# Altium footprint library tekprobe.PcbLib: 11 footprints
Each footprint in its own frame and in the unit in brackets; x right, y up, seen from the top. Pads: shape width x height; smd on the part's side, far side on the other; paste and mask are expansions set on the pad; w line width, h text height; cw(c..) or ccw(c..) is an arc to the next point about the centre after c.
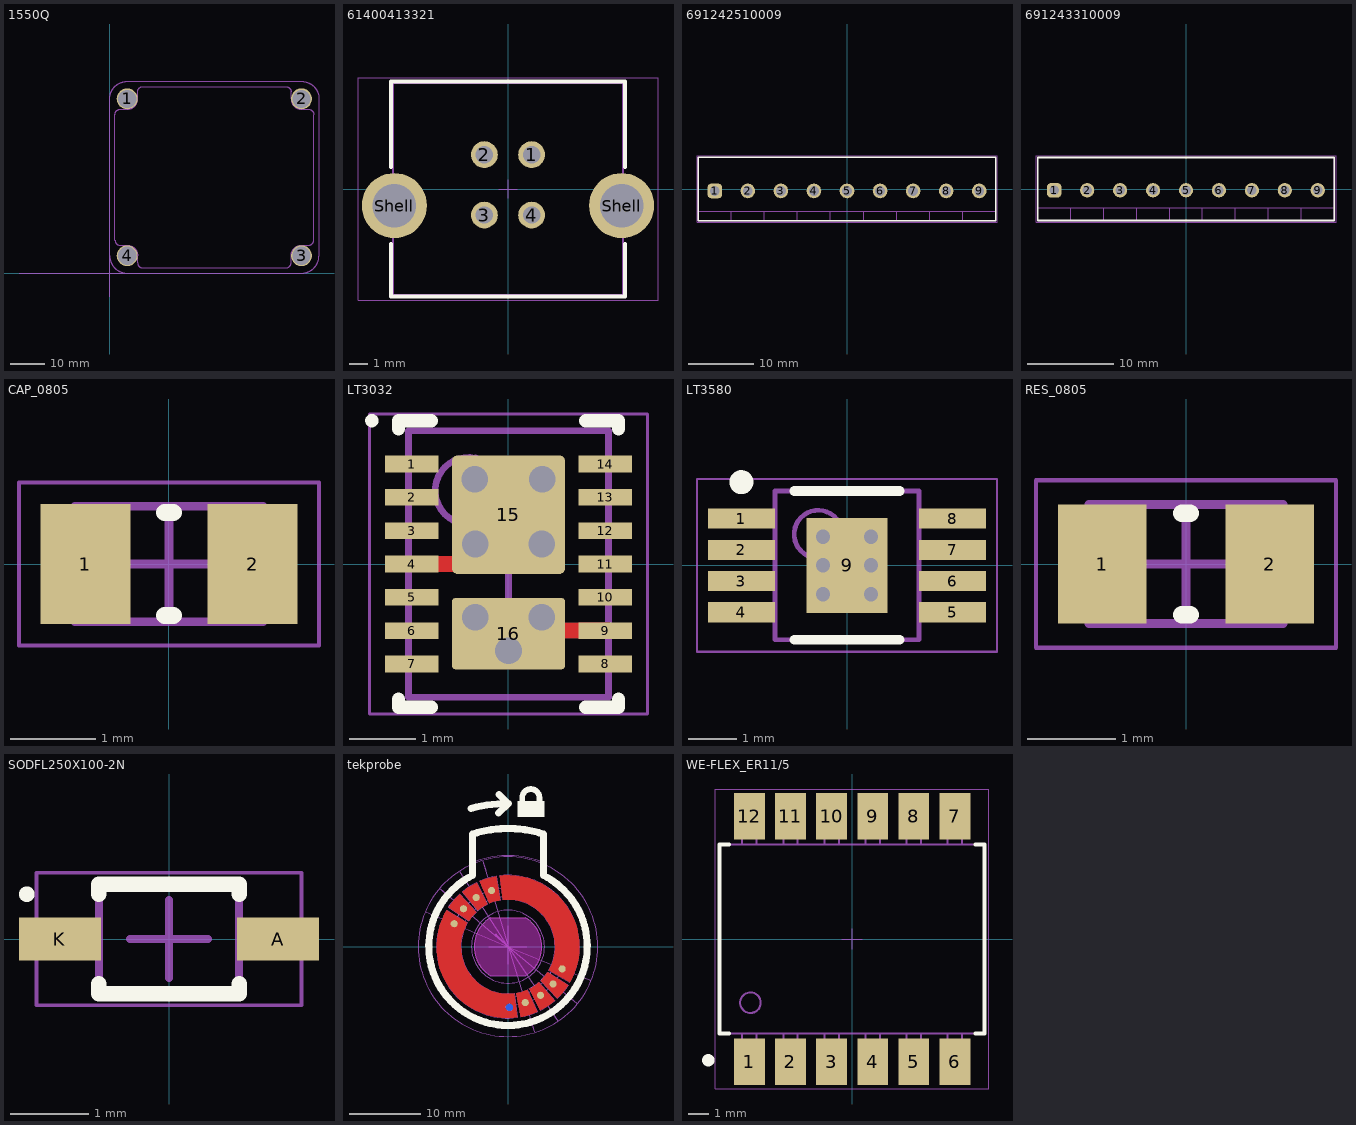
[diagram p0: the footprints below, top view; thin cyan lines are the x and y axes]

## 1550Q [mm]
pads (4):
  round 6 hole 5.2: 1(5,50) 2(55,50) 3(55,5) 4(5,5)
Mechanical 1:
  drawing of 1626 lines, arcs and shapes, not listed
3D body "1550Q.STEP": height 0.6, standoff -27.6, extent 0,0 60,55

## 61400413321 [mm] "USB 2.0 Type B Vertical"
height 16.1
pads (6):
  round 1.42 hole 0.92: 1(1.25,1.82) 2(-1.25,1.82) 3(-1.25,-1.38) 4(1.25,-1.38)
  round 3.45 hole 2.3: Shell(-6.02,-0.88) Shell(6.02,-0.88)
Top Overlay:
  lines w0.2: -6.2,-2.91 -6.2,-5.7 6.2,-5.7 6.2,-2.91 ; -6.2,1.15 -6.2,5.7 6.2,5.7 6.2,1.15
Mechanical 11:
  lines w0.1: -6.1,-5.6 -6.1,5.6 6.1,5.6 6.1,-5.6 -6.1,-5.6
  text ".Designator" at -1.75,-0.75 h1.5
Mechanical 13:
  lines w0.1: -6.1,-5.6 6.1,-5.6 6.1,5.6 -6.1,5.6 -6.1,-5.6
Mechanical 15:
  lines w0.05: -0.5,0 0.5,0 ; 0,-0.5 0,0.5 ; -7.945,-5.9 7.945,-5.9 7.945,5.9 -7.945,5.9 -7.945,-5.9
3D body "61400413321.stp": height 16.2, standoff -4.12, extent -7.35,-5.6 7.35,5.6

## 691242510009 [mm] "Serie 2425 - 5.08 mm _ 9 pins"
height 13.8
pads (9):
  rrect50% 2.25x2.25 hole 1.5: 1(-20.32,-0.3)
  round 2.25 hole 1.5: 2(-15.24,-0.3) 3(-10.16,-0.3) 4(-5.08,-0.3) 5(0,-0.3) 6(5.08,-0.3) 7(10.16,-0.3) 8(15.24,-0.3) 9(20.32,-0.3)
Top Overlay:
  lines w0.2: -22.86,-4.9 -22.86,4.9 22.86,4.9 22.86,-4.9 -22.86,-4.9
Mechanical 11:
  lines w0.1: -22.86,-3.4 22.86,-3.4 ; -17.78,-4.9 -17.78,-3.4 ; -12.7,-4.9 -12.7,-3.4 ; -7.62,-4.9 -7.62,-3.4 ; -2.54,-4.9 -2.54,-3.4 ; 2.54,-4.9 2.54,-3.4 ; 7.62,-4.9 7.62,-3.4 ; 12.7,-4.9 12.7,-3.4 ; 17.78,-4.9 17.78,-3.4 ; -22.86,-4.9 22.86,-4.9 22.86,4.9 -22.86,4.9 -22.86,-4.9
  text ".Designator" at -1.75,-0.75 h1.5
Mechanical 13:
  lines w0.1: -22.86,-3.4 22.86,-3.4 ; -17.78,-4.9 -17.78,-3.4 ; -12.7,-4.9 -12.7,-3.4 ; -7.62,-4.9 -7.62,-3.4 ; -2.54,-4.9 -2.54,-3.4 ; 2.54,-4.9 2.54,-3.4 ; 7.62,-4.9 7.62,-3.4 ; 12.7,-4.9 12.7,-3.4 ; 17.78,-4.9 17.78,-3.4 ; -22.86,-4.9 -22.86,4.9 22.86,4.9 22.86,-4.9 -22.86,-4.9
Mechanical 15:
  lines w0.05: -0.5,0 0.5,0 ; 0,-0.5 0,0.5 ; -23.06,-5.1 23.06,-5.1 23.06,5.1 -23.06,5.1 -23.06,-5.1
3D body "691242510009.stp": height 13.85, standoff -3.45, extent -22.86,-4.9 22.86,4.9

## 691243310009 [mm] "Serie 2433 - 3.81 mm _ 9 pins"
height 9.1
pads (9):
  rrect50% 1.65x1.65 hole 1.1: 1(-15.24,-0.15)
  round 1.65 hole 1.1: 2(-11.43,-0.15) 3(-7.62,-0.15) 4(-3.81,-0.15) 5(0,-0.15) 6(3.81,-0.15) 7(7.62,-0.15) 8(11.43,-0.15) 9(15.24,-0.15)
Top Overlay:
  lines w0.2: -17.145,-3.65 17.145,-3.65 17.145,3.65 -17.145,3.65 -17.145,-3.65
Mechanical 11:
  lines w0.1: -17.145,-2.15 17.145,-2.15 ; -13.335,-3.65 -13.335,-2.15 ; -9.525,-3.65 -9.525,-2.15 ; -5.715,-3.65 -5.715,-2.15 ; -1.905,-3.65 -1.905,-2.15 ; 1.905,-3.65 1.905,-2.15 ; 5.715,-3.65 5.715,-2.15 ; 9.525,-3.65 9.525,-2.15 ; 13.335,-3.65 13.335,-2.15 ; -17.145,-3.65 -17.145,3.65 17.145,3.65 17.145,-3.65 -17.145,-3.65
  text ".Designator" at -1.75,-0.75 h1.5
Mechanical 13:
  lines w0.1: -17.145,-2.15 17.145,-2.15 ; -13.335,-3.65 -13.335,-2.15 ; -9.525,-3.65 -9.525,-2.15 ; -5.715,-3.65 -5.715,-2.15 ; -1.905,-3.65 -1.905,-2.15 ; 1.905,-3.65 1.905,-2.15 ; 5.715,-3.65 5.715,-2.15 ; 9.525,-3.65 9.525,-2.15 ; 13.335,-3.65 13.335,-2.15 ; -17.145,-3.65 17.145,-3.65 17.145,3.65 -17.145,3.65 -17.145,-3.65
Mechanical 15:
  lines w0.05: -0.5,0 0.5,0 ; 0,-0.5 0,0.5 ; -17.345,-3.85 17.345,-3.85 17.345,3.85 -17.345,3.85 -17.345,-3.85
3D body "691243310009.stp": height 9.15, standoff -3.45, extent -17.145,-3.65 17.145,3.65

## CAP_0805 [mm]
height 1.35
pads (2):
  rect 1.05x1.4 smd: 1(-0.975,0) 2(0.975,0)
Top Overlay:
  lines w0.2: -0.05,-0.6 0.05,-0.6 ; -0.05,0.6 0.05,0.6
Mechanical 13:
  lines w0.1: -1.1,-0.675 -1.1,0.675 1.1,0.675 1.1,-0.675 -1.1,-0.675
Mechanical 15:
  lines w0.05: -1.75,-0.95 -1.75,0.95 1.75,0.95 1.75,-0.95 -1.75,-0.95
  lines w0.1: -0.5,0 0.5,0 ; 0,-0.5 0,0.5
3D body "CAP_0805.step": height 1.35, standoff 0, extent -1.1,-0.675 1.1,0.675

## LT3032 [mm] "SON, 14-Leads, Body 4.00x3.00mm, Pitch 0.50mm, Thermal Pad 2.34x1.62mm, IPC Medium Density"
height 0.75
pads (16):
  rect 0.8x0.25 smd mask+0.03: 1(-1.45,1.5) 2(-1.45,1) 3(-1.45,0.5) 4(-1.45,0) 5(-1.45,-0.5) 6(-1.45,-1) 7(-1.45,-1.5) 8(1.45,-1.5) 9(1.45,-1) 10(1.45,-0.5) 11(1.45,0) 12(1.45,0.5) 13(1.45,1) 14(1.45,1.5)
  rrect10% 1.7x1.78 smd mask+0.03: 15(0,0.74)
  rrect10% 1.7x1.07 smd mask+0.03: 16(0,-1.045)
via -0.508,1.27 diameter 0.5 hole 0.4
via 0.508,1.27 diameter 0.5 hole 0.4
via -0.5,0.3 diameter 0.5 hole 0.4
via 0.5,0.3 diameter 0.5 hole 0.4
via 0.5,-0.8 diameter 0.5 hole 0.4
via 0,-1.3 diameter 0.5 hole 0.4
via -0.5,-0.8 diameter 0.5 hole 0.4
Top Layer:
  lines w0.24: -1.3,0 -0.3,0 ; 0.5,-1 1.5,-1
Top Overlay:
  circle w0.1: c-2.05,2.15 r0.05
  lines w0.2: -1.65,-2.025 -1.65,-2.15 -1.16,-2.15 ; -1.65,2.025 -1.65,2.15 -1.16,2.15 ; 1.16,-2.15 1.65,-2.15 1.65,-2.025 ; 1.16,2.15 1.65,2.15 1.65,2.025
Mechanical 13:
  circle w0.1: c-0.6,1.1 r0.5
  lines w0.1: -1.5,-2 1.5,-2 1.5,2 -1.5,2 -1.5,-2
Mechanical 15:
  lines w0.05: -2.085,-2.25 2.085,-2.25 2.085,2.25 -2.085,2.25 -2.085,-2.25
  lines w0.1: -0.5,0 0.5,0 ; 0,-0.5 0,0.5
3D body "LT3032.step": height 0.75, standoff 0, extent -1.55,-2 1.55,2

## LT3580 [mm] "TSOP, 8-Leads, Body 3.00x3.00mm, Pitch 0.65mm, Thermal Pad 1.88x1.68mm, IPC Medium Density"
height 1.1
pads (9):
  rect 1.4x0.42 smd mask+0.05: 1(-2.2,0.975) 2(-2.2,0.325) 3(-2.2,-0.325) 4(-2.2,-0.975) 5(2.2,-0.975) 6(2.2,-0.325) 7(2.2,0.325) 8(2.2,0.975)
  rect 1.68x1.98 smd mask+0.05: 9(0,0)
via 0.5,0 diameter 0.5 hole 0.3
via -0.5,0 diameter 0.5 hole 0.3
via 0.5,0.6 diameter 0.5 hole 0.3
via 0.5,-0.6 diameter 0.5 hole 0.3
via -0.5,-0.6 diameter 0.5 hole 0.3
via -0.5,0.6 diameter 0.5 hole 0.3
Top Overlay:
  circle w0.25: c-2.2,1.735 r0.125
  lines w0.2: -1.1,-1.55 1.1,-1.55 ; -1.1,1.55 1.1,1.55
Mechanical 13:
  circle w0.1: c-0.6,0.65 r0.5
  lines w0.1: -1.5,-1.55 1.5,-1.55 1.5,1.55 -1.5,1.55 -1.5,-1.55
Mechanical 15:
  lines w0.05: -3.125,-1.8 3.125,-1.8 3.125,1.8 -3.125,1.8 -3.125,-1.8
  lines w0.1: -0.5,0 0.5,0 ; 0,-0.5 0,0.5
3D body "LT3580.step": height 1.1, standoff 0, extent -2.45,-1.55 2.45,1.55

## RES_0805 [mm] "Chip Resistor, 2-Leads, Body 2.10x1.30mm, IPC Medium Density"
height 0.65
pads (2):
  rect 1x1.35 smd: 1(-0.95,0) 2(0.95,0)
Top Overlay:
  lines w0.2: -0.05,-0.575 0.05,-0.575 ; -0.05,0.575 0.05,0.575
Mechanical 13:
  lines w0.1: -1.1,-0.675 1.1,-0.675 1.1,0.675 -1.1,0.675 -1.1,-0.675
Mechanical 15:
  lines w0.05: -1.7,-0.95 1.7,-0.95 1.7,0.95 -1.7,0.95 -1.7,-0.95
  lines w0.1: -0.5,0 0.5,0 ; 0,-0.5 0,0.5
3D body "RES_0805.step": height 0.65, standoff 0, extent -1.1,-0.675 1.1,0.675

## SODFL250X100-2N [mm] "SODFL, 2-Leads, Body 1.25x2.50mm, IPC Medium Density"
height 1
pads (2):
  rect 1.05x0.55 smd: A(1.4,0) K(-1.4,0)
Top Overlay:
  circle w0.1: c-1.825,0.575 r0.05
  lines w0.2: -0.9,-0.575 -0.9,-0.7 0.9,-0.7 0.9,-0.575 ; -0.9,0.575 -0.9,0.7 0.9,0.7 0.9,0.575
Mechanical 13:
  lines w0.1: -0.9,-0.675 -0.9,0.675 0.9,0.675 0.9,-0.675 -0.9,-0.675
Mechanical 15:
  lines w0.05: -1.7,-0.85 -1.7,0.85 1.7,0.85 1.7,-0.85 -1.7,-0.85
  lines w0.1: -0.5,0 0.5,0 ; 0,-0.5 0,0.5
3D body "SODFL250X100-2N.step": height 1, standoff 0, extent -1.25,-0.675 1.25,0.675

## tekprobe [mm]
pads (9):
  round 1 smd: 1(7.589,-3.107) 2(6.323,-5.221) 3(4.567,-6.81) 4(2.416,-7.836) 5(-7.54,3.222) 6(-6.242,5.318) 7(-4.457,6.883) 8(-2.306,7.869)
  round 1 smd far side mask+0.102: 9(0.2,-8.5)
Top Layer:
  region: -2.608,6.063 -3.947,9.188 -3.948,9.188 -3.948,9.189 -3.948,9.192 -3.947,9.194 -3.945,9.196 -3.944,9.197 -3.668,9.315 -3.103,9.518 -2.526,9.687 -1.941,9.821 -1.645,9.871 -1.643,9.871 -1.641,9.87 -1.638,9.869 -1.637,9.866 -1.637,9.865 -1.078,6.511 -1.078,6.51 -1.078,6.509 -1.079,6.507 -1.08,6.505 -1.082,6.504 -1.084,6.504 -1.278,6.468 -1.664,6.38 -2.043,6.269 -2.416,6.135 -2.599,6.06 -2.6,6.059 -2.603,6.059 -2.605,6.06 -2.607,6.062
  region: -4.222,5.082 -6.388,7.685 -6.16,7.875 -5.681,8.227 -5.183,8.55 -4.666,8.842 -4.399,8.973 -2.91,5.931 -3.085,5.842 -3.425,5.649 -3.754,5.437 -4.069,5.205
  region: -8.338,5.52 -5.503,3.643 -5.391,3.808 -5.151,4.127 -4.892,4.43 -4.615,4.718 -4.471,4.855 -6.774,7.356 -6.996,7.151 -7.416,6.716 -7.808,6.255 -8.171,5.772
  region: 1.28,-9.918 0.818,-9.977 -0.113,-10.01 -1.043,-9.956 -1.963,-9.816 -2.867,-9.591 -3.746,-9.283 -4.593,-8.895 -5.4,-8.43 -6.16,-7.891 -6.867,-7.284 -7.514,-6.615 -8.097,-5.888 -8.609,-5.11 -9.046,-4.287 -9.406,-3.428 -9.684,-2.539 -9.878,-1.628 -9.986,-0.703 -10.008,0.229 -9.944,1.158 -9.793,2.077 -9.558,2.978 -9.239,3.854 -8.841,4.696 -8.604,5.097 -5.679,3.364 -5.857,3.041 -6.16,2.37 -6.386,1.668 -6.532,0.946 -6.597,0.212 -6.579,-0.525 -6.48,-1.255 -6.299,-1.969 -6.041,-2.659 -5.707,-3.316 -5.302,-3.931 -4.83,-4.498 -4.299,-5.008 -3.714,-5.456 -3.083,-5.836 -2.413,-6.143 -1.713,-6.374 -0.992,-6.525 -0.259,-6.595 0.478,-6.583 0.845,-6.546
  region: 1.774,-9.841 1.171,-6.495 1.366,-6.457 1.753,-6.363 2.134,-6.246 2.507,-6.105 2.69,-6.027 4.075,-9.132 3.8,-9.255 3.235,-9.467 2.658,-9.645 2.071,-9.788
  region: 4.527,-8.917 2.988,-5.885 3.164,-5.792 3.509,-5.59 3.84,-5.368 4.158,-5.126 4.311,-4.998 6.531,-7.573 6.302,-7.77 5.821,-8.137 5.318,-8.474 4.796,-8.78
  region: 8.671,-4.981 8.901,-4.582 9.284,-3.745 9.588,-2.876 9.812,-1.984 9.953,-1.074 10.009,-0.155 9.981,0.764 9.869,1.678 9.673,2.577 9.396,3.455 9.039,4.303 8.605,5.115 8.099,5.884 7.525,6.602 6.886,7.266 6.19,7.867 5.441,8.403 4.647,8.867 3.813,9.256 2.947,9.567 2.055,9.797 1.147,9.945 0.229,10.008 -0.691,9.987 -1.148,9.934 -0.758,6.556 -0.395,6.588 0.333,6.592 1.057,6.515 1.768,6.359 2.457,6.125 3.117,5.817 3.739,5.439 4.315,4.994 4.839,4.488 5.304,3.928 5.704,3.32 6.035,2.671 6.293,1.991 6.474,1.285 6.576,0.565 6.598,-0.163 6.54,-0.889 6.402,-1.604 6.187,-2.299 5.896,-2.967 5.723,-3.287
  region: 6.902,-7.237 4.555,-4.776 4.695,-4.639 4.962,-4.352 5.212,-4.049 5.443,-3.732 5.552,-3.569 8.412,-5.408 8.251,-5.658 7.9,-6.138 7.522,-6.596 7.117,-7.031
Top Overlay:
  rectangle: 1.3,18.2 5.1,20.4
  lines w0.254: 0.015,20.085 0.043,20.085
  lines w0.8: 2,19.7 2,20.9 cw(c3.2,20.9) 4.4,20.9 4.4,19.6
  lines w1: -5.177,19.38 cw(c0,0.06) 0,20.061 ; -1.321,18.721 0.043,20.085 ; -1.25,21.35 0.015,20.085 ; -5,9.97 ccw(c0,0.06) 5,9.97 5,15.784 ccw(c0,0.06) -5,15.784 -5,9.97
Top Solder:
  region: 0,-7 -0.344,-7 -1.028,-6.933 -1.703,-6.798 -2.361,-6.599 -2.996,-6.336 -3.603,-6.011 -4.175,-5.629 -4.707,-5.193 -5.193,-4.707 -5.629,-4.175 -6.011,-3.603 -6.336,-2.996 -6.599,-2.361 -6.798,-1.703 -6.933,-1.028 -7,-0.344 -7,0 -7,0.344 -6.933,1.028 -6.798,1.703 -6.599,2.361 -6.336,2.996 -6.011,3.603 -5.629,4.175 -5.193,4.707 -4.707,5.193 -4.175,5.629 -3.603,6.011 -2.996,6.336 -2.361,6.599 -1.703,6.798 -1.028,6.933 -0.344,7 0,7 0.344,7 1.028,6.933 1.703,6.798 2.361,6.599 2.996,6.336 3.603,6.011 4.175,5.629 4.707,5.193 5.193,4.707 5.629,4.175 6.011,3.603 6.336,2.996 6.599,2.361 6.798,1.703 6.933,1.028 7,0.344 7,0 7,-0.344 6.933,-1.028 6.798,-1.703 6.599,-2.361 6.336,-2.996 6.011,-3.603 5.629,-4.175 5.193,-4.707 4.707,-5.193 4.175,-5.629 3.603,-6.011 2.996,-6.336 2.361,-6.599 1.703,-6.798 1.028,-6.933 0.344,-7
Bottom Solder:
  region: 0,-7 -0.344,-7 -1.028,-6.933 -1.703,-6.798 -2.361,-6.599 -2.996,-6.336 -3.603,-6.011 -4.175,-5.629 -4.707,-5.193 -5.193,-4.707 -5.629,-4.175 -6.011,-3.603 -6.336,-2.996 -6.599,-2.361 -6.798,-1.703 -6.933,-1.028 -7,-0.344 -7,0 -7,0.344 -6.933,1.028 -6.798,1.703 -6.599,2.361 -6.336,2.996 -6.011,3.603 -5.629,4.175 -5.193,4.707 -4.707,5.193 -4.175,5.629 -3.603,6.011 -2.996,6.336 -2.361,6.599 -1.703,6.798 -1.028,6.933 -0.344,7 0,7 0.344,7 1.028,6.933 1.703,6.798 2.361,6.599 2.996,6.336 3.603,6.011 4.175,5.629 4.707,5.193 5.193,4.707 5.629,4.175 6.011,3.603 6.336,2.996 6.599,2.361 6.798,1.703 6.933,1.028 7,0.344 7,0 7,-0.344 6.933,-1.028 6.798,-1.703 6.599,-2.361 6.336,-2.996 6.011,-3.603 5.629,-4.175 5.193,-4.707 4.707,-5.193 4.175,-5.629 3.603,-6.011 2.996,-6.336 2.361,-6.599 1.703,-6.798 1.028,-6.933 0.344,-7
Keep-Out Layer:
  board cut-out: -2.482,-4.05 2.482,-4.05 2.741,-3.891 3.214,-3.511 3.634,-3.073 3.996,-2.586 4.293,-2.056 4.519,-1.493 4.673,-0.906 4.75,-0.304 4.75,0.304 4.673,0.906 4.519,1.493 4.293,2.056 3.996,2.586 3.634,3.073 3.214,3.511 2.741,3.891 2.482,4.05 -2.482,4.05 -2.741,3.891 -3.214,3.511 -3.634,3.073 -3.996,2.586 -4.293,2.056 -4.519,1.493 -4.673,0.906 -4.75,0.304 -4.75,-0.304 -4.673,-0.906 -4.519,-1.493 -4.293,-2.056 -3.996,-2.586 -3.634,-3.073 -3.214,-3.511 -2.741,-3.891
Mechanical 1:
  circle w0.01: c0,0 r12.588
  circle w0.01: c0,0 r5.116
  circle w0.01: c0,0 r8.2
  lines w0.013: -10.229,4.371 -11.494,4.912 0,0 ; -8.478,7.224 -9.515,8.107 0,0 ; -6.061,9.359 -6.794,10.492 0,0 ; -5,11.734 cw(c0,0.06) 5,11.734 ; -3.136,10.7 -3.516,11.995 0,0 ; -2.694,0 2.593,0 ; 0,-2.44 0,2.921 ; 3.253,-10.553 3.683,-11.945 0,0 ; 6.155,-9.178 6.962,-10.382 0,0 ; 8.53,-7.043 9.639,-7.959 0,0 ; 10.251,-4.197 11.568,-4.736 0,0 ; -6.398,7.686 cw(c0,0) -4.396,8.982 ; -6.398,7.686 cw(c0,0) -4.396,8.982 ; -6.398,7.686 -4.222,5.073 cw(c0,0) -2.901,5.928 -4.396,8.982 ; -3.941,9.191 cw(c0,0) -1.643,9.864 ; -3.941,9.191 cw(c0,0) -1.643,9.864 ; -3.941,9.191 -2.601,6.066 cw(c0,0) -1.085,6.51 -1.643,9.864 ; -8.604,5.097 ccw(c0,0) 1.28,-9.918 0.845,-6.546 cw(c0,0) -5.679,3.364 -8.604,5.097 ; -8.338,5.52 cw(c0,0) -6.774,7.356 -4.471,4.855 ccw(c0,0) -5.503,3.643 -8.338,5.52 ; -5,9.97 ccw(c0,0.06) 5,9.97 5,15.784 ccw(c0,0.06) -5,15.784 -5,9.97 ; -2.482,-4.05 cw(c0,0) -2.482,4.05 2.482,4.05 cw(c0,0) 2.482,-4.05 -2.482,-4.05 ; -1.148,9.934 cw(c0,0) 8.671,-4.981 5.723,-3.287 ccw(c0,0) -0.758,6.556 -1.148,9.934 ; 1.171,-6.495 ccw(c0,0) 2.69,-6.027 4.075,-9.132 cw(c0,0) 1.774,-9.841 1.171,-6.495 ; 2.988,-5.885 ccw(c0,0) 4.311,-4.998 6.531,-7.573 cw(c0,0) 4.527,-8.917 2.988,-5.885 ; 4.555,-4.776 ccw(c0,0) 5.552,-3.569 8.412,-5.408 cw(c0,0) 6.902,-7.237 4.555,-4.776
Mechanical 11:
  circle w0.025: c0,0 r7
  lines w0.254: -1.7,1.7 0,0
3D body "5-1634523-1.STEP": height 12.6, standoff -14.7, extent -6.5,-6.5 6.5,6.5

## WE-FLEX_ER11/5 [mm] "Flexible Transformer for DC/DC Converter, size ER11/5"
height 6.2
pads (12):
  rect 1.5x2.25 smd: 1(-5,-5.975) 2(-3,-5.975) 3(-1,-5.975) 4(1,-5.975) 5(3,-5.975) 6(5,-5.975) 7(5,5.975) 8(3,5.975) 9(1,5.975) 10(-1,5.975) 11(-3,5.975) 12(-5,5.975)
Top Overlay:
  circle w0.3: c-7,-5.9 r0.15
  lines w0.2: -6,-4.6 -6.45,-4.6 -6.45,4.6 -6,4.6 ; 6,-4.6 6.45,-4.6 6.45,4.6 6,4.6
Mechanical 11:
  circle w0.1: c-4.95,-3.1 r0.5
  lines w0.1: -5.35,-4.6 -5.35,-6.5 -4.65,-6.5 -4.65,-4.6 ; -5.35,4.6 -5.35,6.5 -4.65,6.5 -4.65,4.6 ; -3.35,-4.6 -3.35,-6.5 -2.65,-6.5 -2.65,-4.6 ; -3.35,4.6 -3.35,6.5 -2.65,6.5 -2.65,4.6 ; -1.35,-4.6 -1.35,-6.5 -0.65,-6.5 -0.65,-4.6 ; -1.35,4.6 -1.35,6.5 -0.65,6.5 -0.65,4.6 ; 0.65,-4.6 0.65,-6.5 1.35,-6.5 1.35,-4.6 ; 0.65,4.6 0.65,6.5 1.35,6.5 1.35,4.6 ; 2.65,-4.6 2.65,-6.5 3.35,-6.5 3.35,-4.6 ; 2.65,4.6 2.65,6.5 3.35,6.5 3.35,4.6 ; 4.65,-4.6 4.65,-6.5 5.35,-6.5 5.35,-4.6 ; 4.65,4.6 4.65,6.5 5.35,6.5 5.35,4.6 ; -6.45,-4.6 -6.45,4.6 6.45,4.6 6.45,-4.6 -6.45,-4.6
  text ".Designator" at -1.75,-0.75 h1.5
Mechanical 13:
  circle w0.1: c-4.95,-3.1 r0.5
  lines w0.1: -5.35,-4.6 -5.35,-6.5 -4.65,-6.5 -4.65,-4.6 ; -5.35,4.6 -5.35,6.5 -4.65,6.5 -4.65,4.6 ; -3.35,-4.6 -3.35,-6.5 -2.65,-6.5 -2.65,-4.6 ; -3.35,4.6 -3.35,6.5 -2.65,6.5 -2.65,4.6 ; -1.35,-4.6 -1.35,-6.5 -0.65,-6.5 -0.65,-4.6 ; -1.35,4.6 -1.35,6.5 -0.65,6.5 -0.65,4.6 ; 0.65,-4.6 0.65,-6.5 1.35,-6.5 1.35,-4.6 ; 0.65,4.6 0.65,6.5 1.35,6.5 1.35,4.6 ; 2.65,-4.6 2.65,-6.5 3.35,-6.5 3.35,-4.6 ; 2.65,4.6 2.65,6.5 3.35,6.5 3.35,4.6 ; 4.65,-4.6 4.65,-6.5 5.35,-6.5 5.35,-4.6 ; 4.65,4.6 4.65,6.5 5.35,6.5 5.35,4.6 ; -6.45,-4.6 6.45,-4.6 6.45,4.6 -6.45,4.6 -6.45,-4.6
Mechanical 15:
  lines w0.05: -0.5,0 0.5,0 ; 0,-0.5 0,0.5 ; -6.65,-7.3 -6.65,7.3 6.65,7.3 6.65,-7.3 -6.65,-7.3
3D body "ER 11_5.stp": height 6.2, standoff 0, extent -6.45,-6.5 6.45,6.5